# Altium schematic symbol library TS5A1066.Schlib: 1 symbol
Pins are listed as number, name and electrical type; pins without a type are passive.

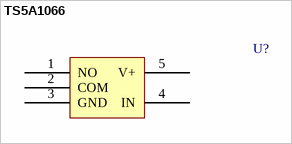
[diagram p0: symbol TS5A1066]

## TS5A1066
designator U?
pins: 1 NO, 2 COM, 3 GND (power), 4 IN, 5 V+